# Altium footprint library Footprints.PcbLib: 7 footprints
Each footprint in its own frame and in the unit in brackets; x right, y up, seen from the top. Pads: shape width x height; smd on the part's side, far side on the other; paste and mask are expansions set on the pad; w line width, h text height; cw(c..) or ccw(c..) is an arc to the next point about the centre after c.
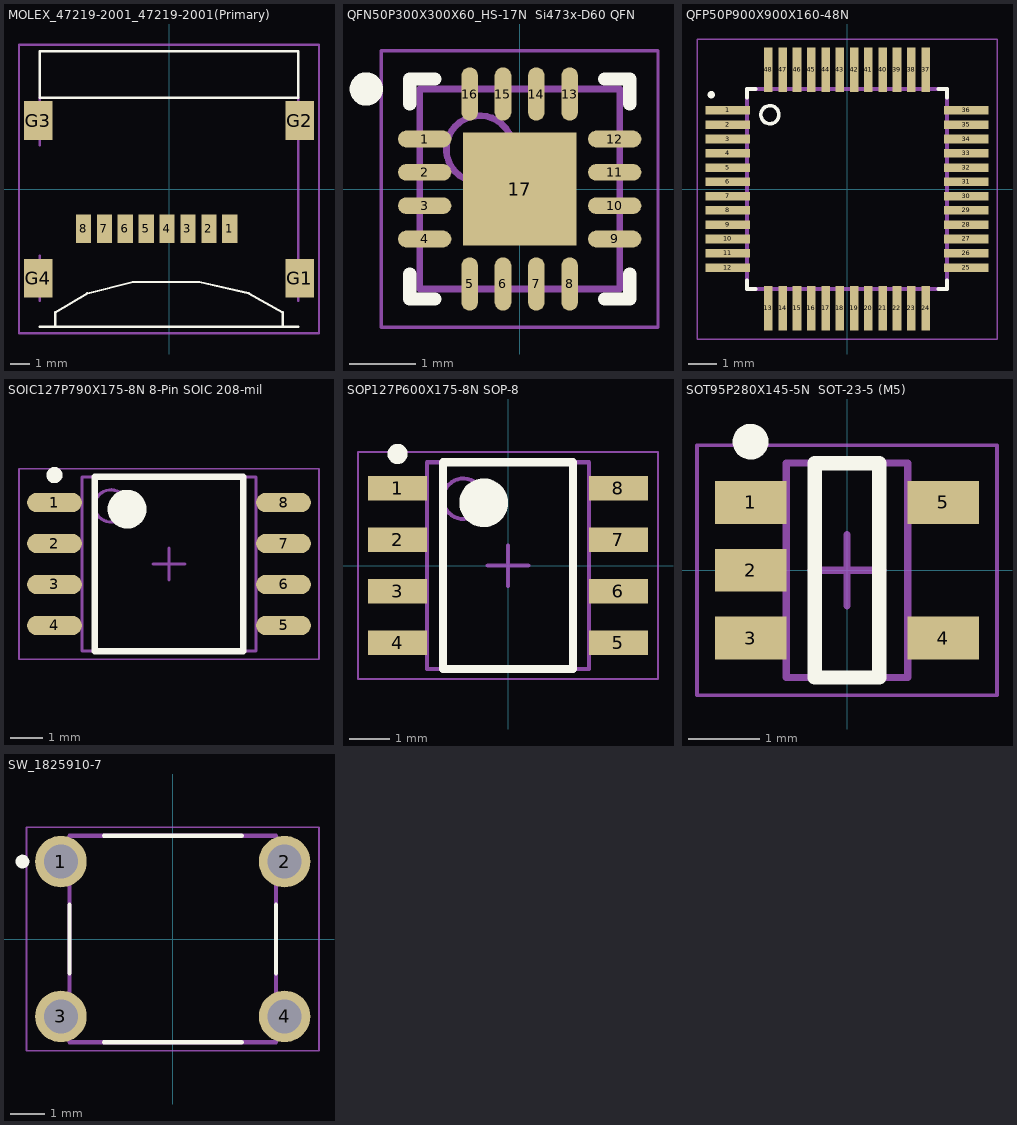
[diagram p0: the footprints below, top view; thin cyan lines are the x and y axes]

## MOLEX_47219-2001_47219-2001(Primary) [mm]
pads (12):
  rect 0.8x1.5 smd: 1(3.2,-2.1) 2(2.1,-2.1) 3(1,-2.1) 4(-0.1,-2.1) 5(-1.2,-2.1) 6(-2.3,-2.1) 7(-3.4,-2.1) 8(-4.5,-2.1)
  rect 1.5x2.05 smd: G1(6.875,-4.7) G2(6.875,3.6) G3(-6.875,3.6) G4(-6.875,-4.7)
Top Overlay:
  lines w0.127: -6.8,-7.25 6.8,-7.25 ; -6.8,7.2 -6.8,4.8 6.8,4.8 6.8,7.2 ; -6.8,7.25 6.8,7.25 ; -6,-7.2 -6,-6.5 -4.3,-5.5 -1.9,-4.9 1.6,-4.9 4.2,-5.5 6,-6.5 6,-7.2
Mechanical 1:
  lines w0.127: -6.8,-5.9 -6.8,-3.5 ; -6.8,2.3 -6.8,4.8 ; 6.8,-5.9 6.8,4.8
Mechanical 4:
  lines w0.127: -7.9,-7.6 7.9,-7.6 7.9,7.6 -7.9,7.6 -7.9,-7.6

## QFN50P300X300X60_HS-17N  Si473x-D60 QFN [mm] "QFN, 16-Leads, Body 3,00x3,00mm, Pitch 0,50mm, Thermal Pad 1,70x1,70mm, IPC Medium Density"
height 0.6
pads (17):
  oval 0.8x0.25 smd: 1(-1.425,0.75) 2(-1.425,0.25) 3(-1.425,-0.25) 4(-1.425,-0.75) 9(1.425,-0.75) 10(1.425,-0.25) 11(1.425,0.25) 12(1.425,0.75)
  oval 0.25x0.8 smd: 5(-0.75,-1.425) 6(-0.25,-1.425) 7(0.25,-1.425) 8(0.75,-1.425) 13(0.75,1.425) 14(0.25,1.425) 15(-0.25,1.425) 16(-0.75,1.425)
  rect 1.7x1.7 smd: 17(0,0)
Top Overlay:
  circle w0.25: c-2.3,1.5 r0.125
  lines w0.2: -1.65,-1.275 -1.65,-1.65 -1.275,-1.65 ; -1.65,1.275 -1.65,1.65 -1.275,1.65 ; 1.275,-1.65 1.65,-1.65 1.65,-1.275 ; 1.275,1.65 1.65,1.65 1.65,1.275
Mechanical 13:
  circle w0.1: c-0.6,0.6 r0.5
  lines w0.1: -1.5,-1.5 1.5,-1.5 1.5,1.5 -1.5,1.5 -1.5,-1.5
Mechanical 15:
  lines w0.05: -2.075,-2.075 2.075,-2.075 2.075,2.075 -2.075,2.075 -2.075,-2.075
  lines w0.1: -0.5,0 0.5,0 ; 0,-0.5 0,0.5
3D body "QFN50P300X300X60_HS-17N  Si473x-D60 QFN.step": height 0.6, standoff 0, extent -1.501,-1.501 1.501,1.501

## QFP50P900X900X160-48N [mm]
pads (48):
  rect 1.56x0.3 smd: 1(-4.18,2.75) 2(-4.18,2.25) 3(-4.18,1.75) 4(-4.18,1.25) 5(-4.18,0.75) 6(-4.18,0.25) 7(-4.18,-0.25) 8(-4.18,-0.75) 9(-4.18,-1.25) 10(-4.18,-1.75) 11(-4.18,-2.25) 12(-4.18,-2.75) 25(4.18,-2.75) 26(4.18,-2.25) 27(4.18,-1.75) 28(4.18,-1.25) 29(4.18,-0.75) 30(4.18,-0.25) 31(4.18,0.25) 32(4.18,0.75) 33(4.18,1.25) 34(4.18,1.75) 35(4.18,2.25) 36(4.18,2.75)
  rect 0.3x1.56 smd: 13(-2.75,-4.18) 14(-2.25,-4.18) 15(-1.75,-4.18) 16(-1.25,-4.18) 17(-0.75,-4.18) 18(-0.25,-4.18) 19(0.25,-4.18) 20(0.75,-4.18) 21(1.25,-4.18) 22(1.75,-4.18) 23(2.25,-4.18) 24(2.75,-4.18) 37(2.75,4.18) 38(2.25,4.18) 39(1.75,4.18) 40(1.25,4.18) 41(0.75,4.18) 42(0.25,4.18) 43(-0.25,4.18) 44(-0.75,4.18) 45(-1.25,4.18) 46(-1.75,4.18) 47(-2.25,4.18) 48(-2.75,4.18)
Top Overlay:
  circle w0.127: c-2.7,2.6 r0.316
  circle w0.127: c-4.75,3.3 r0.063
  lines w0.127: -3.5,-3.2 -3.5,-3.5 -3.2,-3.5 ; -3.5,3.2 -3.5,3.5 -3.2,3.5 ; 3.2,-3.5 3.5,-3.5 3.5,-3.2 ; 3.2,3.5 3.5,3.5 3.5,3.2
Mechanical 1:
  lines w0.127: -3.5,-3.5 3.5,-3.5 3.5,3.5 -3.5,3.5 -3.5,-3.5
Mechanical 4:
  lines w0.05: -5.25,-5.25 5.25,-5.25 5.25,5.25 -5.25,5.25 -5.25,-5.25

## SOIC127P790X175-8N 8-Pin SOIC 208-mil [mm] "SOIC, 8-Leads, Body 5,28x5,28mm, Pitch 1,27mm, IPC Medium Density"
height 1.75
pads (8):
  oval 1.7x0.6 smd: 1(-21.3,11.43) 2(-21.3,10.16) 3(-21.3,8.89) 4(-21.3,7.62) 5(-14.2,7.62) 6(-14.2,8.89) 7(-14.2,10.16) 8(-14.2,11.43)
Top Overlay:
  circle w0.6: c-19.05,11.225 r0.3
  circle w0.25: c-21.3,12.28 r0.125
  lines w0.2: -20.05,6.825 -15.45,6.825 -15.45,12.225 -20.05,12.225 -20.05,6.825
Mechanical 13:
  circle w0.1: c-19.55,11.325 r0.5
  lines w0.1: -20.45,6.825 -15.05,6.825 -15.05,12.225 -20.45,12.225 -20.45,6.825
Mechanical 15:
  lines w0.05: -22.4,6.575 -13.1,6.575 -13.1,12.475 -22.4,12.475 -22.4,6.575
  lines w0.1: -18.25,9.525 -17.25,9.525 ; -17.75,9.025 -17.75,10.025
3D body "SOIC127P790X175-8N 8-Pin SOIC 208-mil.step": height 1.75, standoff 0, extent -21.7,6.825 -13.8,12.225

## SOP127P600X175-8N SOP-8 [mm] "SOP, 8-Leads, Body 4,90x3,90mm, Pitch 1,27mm, IPC Medium Density"
height 1.75
pads (8):
  rect 1.45x0.6 smd: 1(-2.725,1.905) 2(-2.725,0.635) 3(-2.725,-0.635) 4(-2.725,-1.905) 5(2.725,-1.905) 6(2.725,-0.635) 7(2.725,0.635) 8(2.725,1.905)
Top Overlay:
  circle w0.6: c-0.6,1.55 r0.3
  circle w0.25: c-2.725,2.755 r0.125
  lines w0.2: -1.6,-2.55 1.6,-2.55 1.6,2.55 -1.6,2.55 -1.6,-2.55
Mechanical 13:
  circle w0.1: c-1.1,1.65 r0.5
  lines w0.1: -2,-2.55 2,-2.55 2,2.55 -2,2.55 -2,-2.55
Mechanical 15:
  lines w0.05: -3.7,-2.8 3.7,-2.8 3.7,2.8 -3.7,2.8 -3.7,-2.8
  lines w0.1: -0.5,0 0.5,0 ; 0,-0.5 0,0.5
3D body: height 1.75, standoff 0.1, extent -2,-2.55 2,2.55

## SOT95P280X145-5N  SOT-23-5 (M5) [mm] "SOT23, 5-Leads, Body 2,90x2,80mm, Pitch 0,95mm, IPC Medium Density"
height 1.45
pads (5):
  rect 1x0.6 smd: 1(-1.35,0.95) 2(-1.35,0) 3(-1.35,-0.95) 4(1.35,-0.95) 5(1.35,0.95)
Top Overlay:
  circle w0.25: c-1.35,1.8 r0.125
  lines w0.2: -0.45,-1.5 0.45,-1.5 0.45,1.5 -0.45,1.5 -0.45,-1.5
Mechanical 13:
  lines w0.1: -0.85,-1.5 -0.85,1.5 0.85,1.5 0.85,-1.5 -0.85,-1.5
Mechanical 15:
  lines w0.05: -2.1,-1.75 -2.1,1.75 2.1,1.75 2.1,-1.75 -2.1,-1.75
  lines w0.1: -0.5,0 0.5,0 ; 0,-0.5 0,0.5
3D body "SOT95P280X145-5N  SOT-23-5 (M5).step": height 1.45, standoff 0, extent -1.5,-1.5 1.5,1.5

## SW_1825910-7 [mm]
pads (4):
  round 1.498 hole 0.99: 1(-3.25,2.25) 2(3.25,2.25) 3(-3.25,-2.25) 4(3.25,-2.25)
Top Overlay:
  circle w0.2: c-4.369,2.25 r0.1
  lines w0.127: -3,-1 -3,1 ; -2,-3 2,-3 ; -2,3 2,3 ; 3,-1 3,1
Mechanical 1:
  lines w0.127: -3,-3 -3,3 3,3 3,-3 -3,-3
Mechanical 4:
  lines w0.05: -4.25,-3.25 4.25,-3.25 4.25,3.25 -4.25,3.25 -4.25,-3.25